# Altium footprint library openmv-stm32n.PcbLib: 58 footprints (part 2 of 4)
Each footprint in its own frame and in the unit in brackets; x right, y up, seen from the top. Pads: shape width x height; smd on the part's side, far side on the other; paste and mask are expansions set on the pad; w line width, h text height; cw(c..) or ccw(c..) is an arc to the next point about the centre after c.
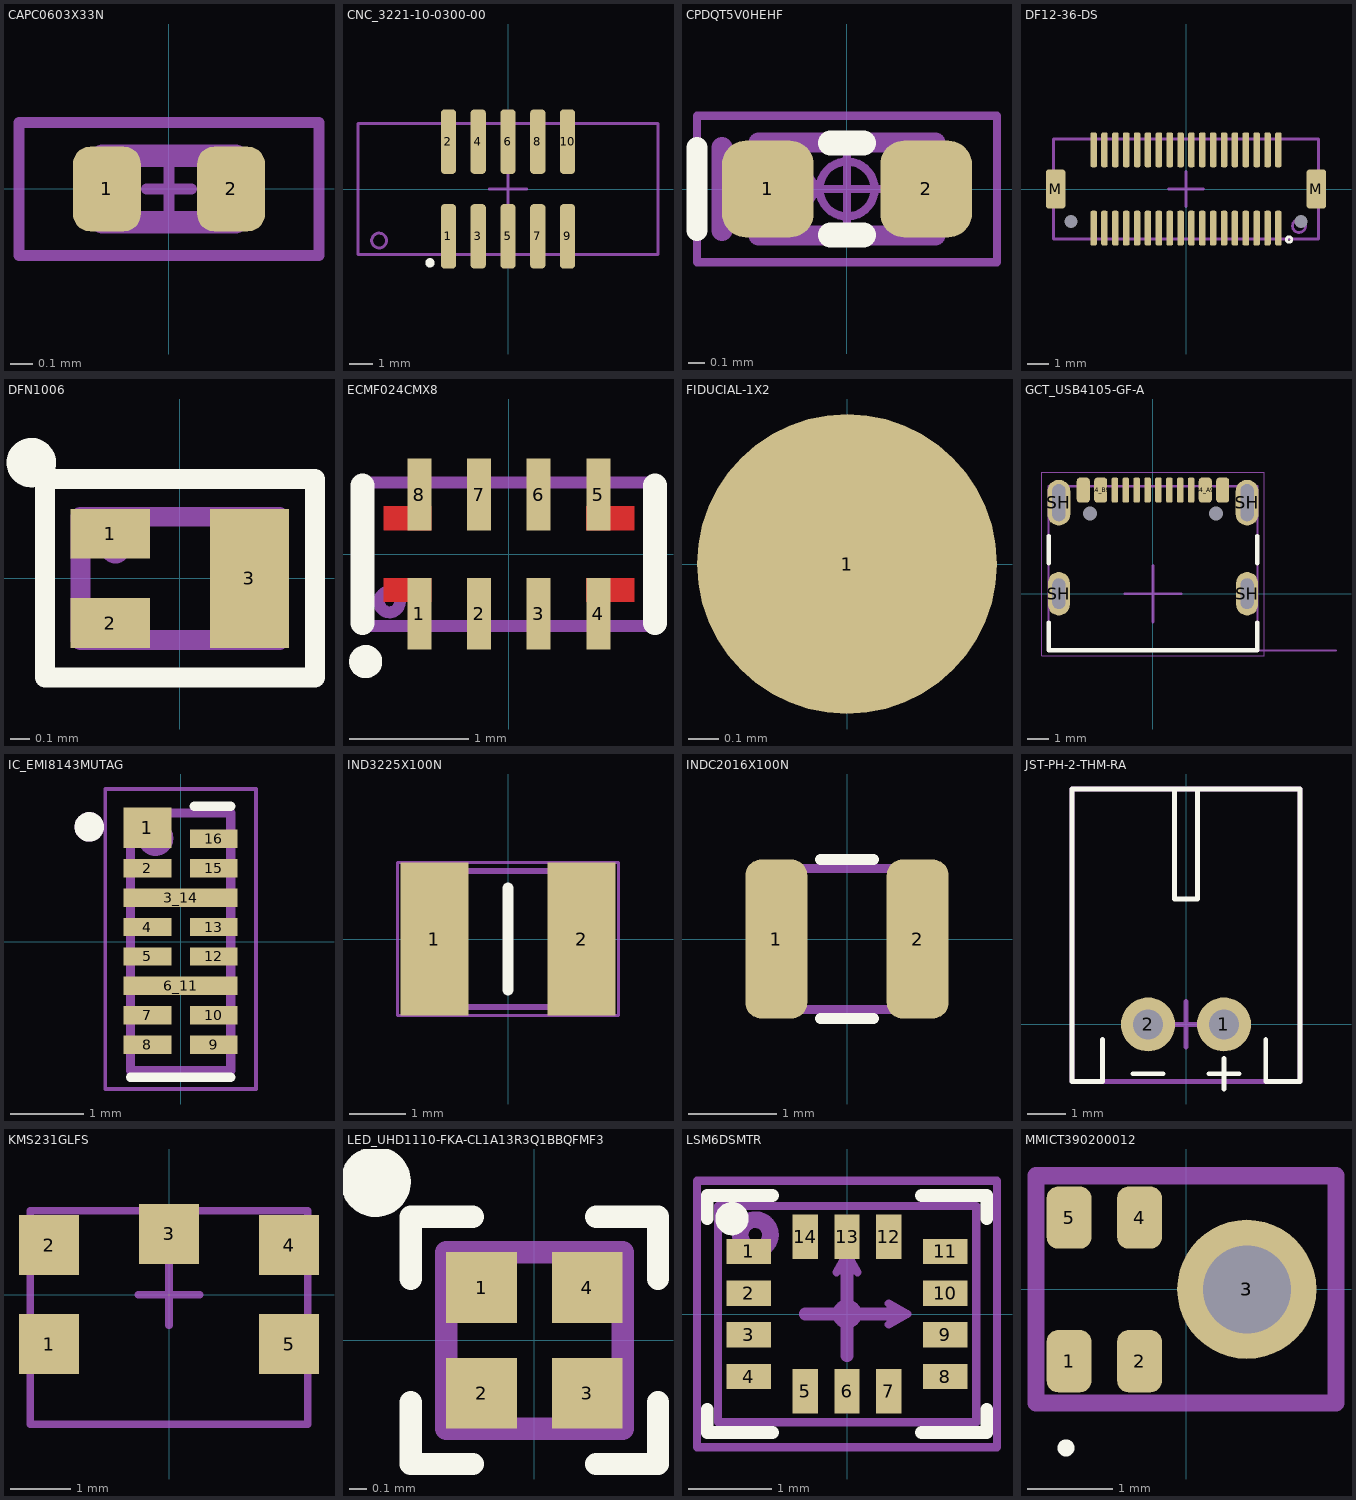
[diagram p1: the footprints below, top view; thin cyan lines are the x and y axes]

## CAPC0603X33N [mil] "CAPC0603X33N"
height 98.43
pads (2):
  rrect50% 12x15 smd mask+1.97: 1(-10.97,-0.04) 2(11.03,-0.04)
Top Solder:
  rectangle: -6.97,-9.04 8.03,8.96
Top 3D Body (Mech13):
  lines w3.94: -11.78,-5.95 11.84,-5.95 11.84,5.86 -11.78,5.86 -11.78,-5.95
  text ".designator" at -7.85,-2.99 h15.75
Mechanical 15:
  lines w1.97: -3.91,-0.04 0.03,-0.04 ; 0.03,-3.98 0.03,-0.04 ; 0.03,3.9 0.03,-0.04 ; 3.97,-0.04 0.03,-0.04 ; -26.55,-11.85 26.6,-11.85 26.6,11.77 -26.55,11.77 -26.55,-11.85
3D body "C0201_035.step": height 13.78, standoff 0, extent -11.79,-5.93 11.84,5.88

## CNC_3221-10-0300-00 [mm] "CNC_3221-10-0300-00"
height 2.5
pads (10):
  rrect50% 0.65x2.76 smd: 1(-2.54,-2.02) 2(-2.54,2.02) 3(-1.27,-2.02) 4(-1.27,2.02) 5(0,-2.02) 6(0,2.02) 7(1.27,-2.02) 8(1.27,2.02) 9(2.54,-2.02) 10(2.54,2.02)
Top Overlay:
  circle w0.2: c-3.327,-3.15 r0.1
Top 3D Body (Mech13):
  circle w0.127: c-5.5,-2.2 r0.316
  lines w0.127: -0.8,0 0,0 ; 0,-0.8 0,0 ; 0,0.8 0,0 ; 0.8,0 0,0 ; -6.4,-2.8 -6.4,2.8 6.4,2.8 6.4,-2.8 -6.4,-2.8
  text ".designator" at -2.1,-2.65 h0.64
3D body "FTSH-105-01-L-DV-K.stp": height 6.13, standoff 0.01, extent -3.175,-2.921 3.175,2.921

## CPDQT5V0HEHF [mm] "CPDQT5V0HEHF"
height 2.5
pads (2):
  rrect51% 0.55x0.58 smd mask+0.05: 1(-0.475,0) 2(0.475,0)
Top Overlay:
  lines w0.127: -0.9,-0.25 -0.9,0.25
  lines w0.15: -0.1,-0.275 0.1,-0.275 ; -0.1,0.275 0.1,0.275
Top 3D Body (Mech13):
  circle w0.254: c-0.3,0 r0
  lines w0.12: -0.53,-0.28 0.53,-0.28 0.53,0.28 -0.53,0.28 -0.53,-0.28
  lines w0.127: -0.75,-0.25 -0.75,0.25
  text ".designator" at -0.2,-0.2 h0.3
Mechanical 15:
  circle w0.05: c0,0 r0.165
  lines w0.05: -0.22,0 0.22,0 ; 0,-0.22 0,0.22 ; -0.9,-0.44 0.9,-0.44 0.9,0.44 -0.9,0.44 -0.9,-0.44
3D body "RES-0402.stp": height 0.34, standoff 0, extent -0.5,-0.25 0.5,0.25

## DF12-36-DS [mm] "DF12-36-DS"
height 2.5
pads (40):
  rrect50% 0.3x1.6 smd paste+0 mask+0.05: 1(4.25,-1.8) 2(4.25,1.8) 3(3.75,-1.8) 4(3.75,1.8) 5(3.25,-1.8) 6(3.25,1.8) 7(2.75,-1.8) 8(2.75,1.8) 9(2.25,-1.8) 10(2.25,1.8) 11(1.75,-1.8) 12(1.75,1.8) 13(1.25,-1.8) 14(1.25,1.8) 15(0.75,-1.8) 16(0.75,1.8) 17(0.25,-1.8) 18(0.25,1.8) 19(-0.25,-1.8) 20(-0.25,1.8) 21(-0.75,-1.8) 22(-0.75,1.8) 23(-1.25,-1.8) 24(-1.25,1.8) 25(-1.75,-1.8) 26(-1.75,1.8) 27(-2.25,-1.8) 28(-2.25,1.8) 29(-2.75,-1.8) 30(-2.75,1.8) 31(-3.25,-1.8) 32(-3.25,1.8) 33(-3.75,-1.8) 34(-3.75,1.8) 35(-4.25,-1.8) 36(-4.25,1.8)
  rrect30% 0.9x1.8 smd: M(-6,0) M(6,0)
  round 0 hole 0.6 unplated: MH1(5.3,-1.5) MH2(-5.3,-1.5)
Top Overlay:
  circle w0.127: c4.742,-2.324 r0.127
Top Paste:
  region: -3.638,-1.206 -3.638,-2.507 -3.858,-2.507 -3.858,-1.206
  region: -4.138,2.513 -4.138,1.213 -4.358,1.213 -4.358,2.513
  region: -3.638,2.513 -3.638,1.213 -3.858,1.213 -3.858,2.513
  region: -4.138,-1.206 -4.138,-2.507 -4.358,-2.507 -4.358,-1.206
  region: -2.638,-1.206 -2.638,-2.507 -2.858,-2.507 -2.858,-1.206
  region: -2.138,-1.206 -2.138,-2.507 -2.358,-2.507 -2.358,-1.206
  region: -1.638,-1.206 -1.638,-2.507 -1.858,-2.507 -1.858,-1.206
  region: -1.138,-1.206 -1.138,-2.507 -1.358,-2.507 -1.358,-1.206
  region: -0.638,-1.206 -0.638,-2.507 -0.858,-2.507 -0.858,-1.206
  region: -0.138,-1.206 -0.138,-2.507 -0.358,-2.507 -0.358,-1.206
  region: 0.362,-1.206 0.362,-2.507 0.142,-2.507 0.142,-1.206
  region: 0.862,-1.206 0.862,-2.507 0.642,-2.507 0.642,-1.206
  region: 1.362,-1.206 1.362,-2.507 1.142,-2.507 1.142,-1.206
  region: 1.862,-1.206 1.862,-2.507 1.642,-2.507 1.642,-1.206
  region: 2.362,-1.206 2.362,-2.507 2.142,-2.507 2.142,-1.206
  region: 2.862,-1.206 2.862,-2.507 2.642,-2.507 2.642,-1.206
  region: 3.362,-1.206 3.362,-2.507 3.142,-2.507 3.142,-1.206
  region: 3.862,-1.206 3.862,-2.507 3.642,-2.507 3.642,-1.206
  region: 4.362,-1.206 4.362,-2.507 4.142,-2.507 4.142,-1.206
  region: -3.138,2.513 -3.138,1.213 -3.358,1.213 -3.358,2.513
  region: -2.638,2.513 -2.638,1.213 -2.858,1.213 -2.858,2.513
  region: -2.138,2.513 -2.138,1.213 -2.358,1.213 -2.358,2.513
  region: -1.638,2.513 -1.638,1.213 -1.858,1.213 -1.858,2.513
  region: -1.138,2.513 -1.138,1.213 -1.358,1.213 -1.358,2.513
  region: -0.638,2.513 -0.638,1.213 -0.858,1.213 -0.858,2.513
  region: -0.148,2.513 -0.148,1.213 -0.368,1.213 -0.368,2.513
  region: 0.362,2.513 0.362,1.213 0.142,1.213 0.142,2.513
  region: 0.862,2.513 0.862,1.213 0.642,1.213 0.642,2.513
  region: 1.362,2.513 1.362,1.213 1.142,1.213 1.142,2.513
  region: 1.852,2.513 1.852,1.213 1.632,1.213 1.632,2.513
  region: 2.362,2.513 2.362,1.213 2.142,1.213 2.142,2.513
  region: 2.862,2.513 2.862,1.213 2.642,1.213 2.642,2.513
  region: 3.362,2.513 3.362,1.213 3.142,1.213 3.142,2.513
  region: 3.862,2.513 3.862,1.213 3.642,1.213 3.642,2.513
  region: 4.362,2.513 4.362,1.213 4.142,1.213 4.142,2.513
  region: -3.138,-1.206 -3.138,-2.507 -3.358,-2.507 -3.358,-1.206
Top 3D Body (Mech13):
  circle w0.127: c5.2,-1.7 r0.3
  lines w0.127: -0.8,0 0,0 ; 0,-0.8 0,0 ; 0,0.8 0,0 ; 0.8,0 0,0 ; -6.1,-2.3 6.1,-2.3 6.1,2.3 -6.1,2.3 -6.1,-2.3
  text ".designator" at -5.5,-2.25 h0.64
3D body "DF12NB-36DS-0.5V.stp": height 2.7, standoff 0, extent -6.05,-2.3 6.05,2.3

## DFN1006 [mm]
height 0.5
pads (3):
  rect 0.4x0.25 smd paste+0 mask+0.05: 1(-0.35,0.225) 2(-0.35,-0.225)
  rect 0.4x0.7 smd paste+0 mask+0.05: 3(0.35,0)
Top Overlay:
  circle w0.125: c-0.749,0.582 r0.062
  lines w0.1: -0.68,-0.5 0.68,-0.5 0.68,0.5 -0.68,0.5 -0.68,-0.5
Top 3D Body:
  circle w0.1: c-0.325,0.15 r0.025
  lines w0.1: -0.5,-0.31 -0.5,0.31 0.5,0.31 0.5,-0.31 -0.5,-0.31
  text ".designator" at -0.406,-0.229 h0.3
3D body: height 0.5, standoff 0, extent -0.5,-0.31 0.5,0.31

## ECMF024CMX8 [mm] "ECMF024CMX8"
height 2.5
pads (8):
  rect 0.2x0.6 smd mask+0.051: 1(-0.75,-0.5) 2(-0.25,-0.5) 3(0.25,-0.5) 4(0.75,-0.5) 5(0.75,0.5) 6(0.25,0.5) 7(-0.25,0.5) 8(-0.75,0.5)
Top Layer:
  region: 0.65,0.2 0.65,0.4 1.05,0.4 1.05,0.2
  region: 0.65,-0.2 0.65,-0.4 1.05,-0.4 1.05,-0.2
  region: -0.65,-0.2 -0.65,-0.4 -1.05,-0.4 -1.05,-0.2
  region: -0.65,0.2 -0.65,0.4 -1.05,0.4 -1.05,0.2
Top Overlay:
  circle w0.15: c-1.2,-0.9 r0.064
  lines w0.2: -1.225,-0.575 -1.225,0.575 ; 1.225,-0.575 1.225,0.575
Top 3D Body (Mech13):
  circle w0.1: c-1,-0.4 r0.087
  lines w0.1: -1.25,-0.6 -1.25,0.6 1.25,0.6 1.25,-0.6 -1.25,-0.6
  text ".designator" at -0.85,-1.373 h0.76
3D body: height 0.5, standoff 0, extent -1.25,-0.6 1.25,0.6

## FIDUCIAL-1X2 [mm] "FIDUCIAL-1X2"
height 2.5
pads (1):
  rrect100% 1x1 smd paste+0: 1(0,0)

## GCT_USB4105-GF-A [mm] "GCT_USB4105-GF-A"
height 2.5
pads (18):
  round 0 hole 0.65 unplated: 0(-2.89,3.68) 0(2.89,3.68)
  rrect50% 0.6x1.15 smd mask+0: A1_B12(-3.2,4.755) A4_B9(-2.4,4.755) B1_A12(3.2,4.755) B4_A9(2.4,4.755)
  rrect50% 0.3x1.15 smd mask+0: A5(-1.25,4.755) A6(-0.25,4.755) A7(0.25,4.755) A8(1.25,4.755) B5(1.75,4.755) B6(0.75,4.755) B7(-0.75,4.755) B8(-1.75,4.755)
  oval 1x2 hole 0.6 slot 1.4 at 90 deg: SH(-4.32,0) SH(4.32,0)
  oval 1.05x2.1 hole 0.6 slot 1.7 at 90 deg: SH(-4.32,4.18) SH(4.32,4.18)
Top Overlay:
  lines w0.2: -4.79,-1.32 -4.79,-2.6 4.79,-2.6 4.79,-1.32 ; -4.79,1.4 -4.79,2.65 ; 4.79,1.4 4.79,2.65
Top 3D Body (Mech13):
  lines w0.1: 4.8,-2.6 8.4,-2.6 ; -4.79,-2.6 4.79,-2.6 4.79,4.93 -4.79,4.93 -4.79,-2.6
  lines w0.127: -1.3,0 0,0 ; 0,-1.3 0,0 ; 0,1.3 0,0 ; 1.3,0 0,0
  text "PCB EDGE" at 5.4,-2.5 h0.41
  text ".designator" at -2,1.85 h0.64
Mechanical 15:
  lines w0.05: -5.1,-2.85 -5.1,5.58 5.1,5.58 5.1,-2.85 -5.1,-2.85
3D body "step_temp.STEP": height 3.31, standoff -0.85, extent -4.79,-2.6 4.79,5.11

## IC_EMI8143MUTAG [mm]
pads (14):
  rect 0.65x0.55 smd mask+0.051: 1(-0.45,1.55)
  rect 0.65x0.25 smd mask+0.051: 2(-0.45,1) 4(-0.45,0.2) 5(-0.45,-0.2) 7(-0.45,-1) 8(-0.45,-1.4) 9(0.45,-1.4) 10(0.45,-1) 12(0.45,-0.2) 13(0.45,0.2) 15(0.45,1) 16(0.45,1.4)
  rect 1.55x0.25 smd mask+0.051: 3_14(0,0.6) 6_11(0,-0.6)
Top Overlay:
  circle w0.2: c-1.24,1.56 r0.1
  lines w0.127: -0.68,-1.84 0.68,-1.84 ; 0.185,1.84 0.68,1.84
Top Courtyard:
  lines w0.05: -1.025,-2 1.025,-2 1.025,2.075 -1.025,2.075 -1.025,-2
Top 3D Body:
  circle w0.2: c-1.24,1.56 r0.1
  circle w0.203: c-0.339,1.406 r0.139
  lines w0.127: -0.68,-1.75 -0.68,1.75 0.68,1.75 0.68,-1.75 -0.68,-1.75
  text ".designator" at 0.576,-1.524 h0.64
3D body: height 0.51, standoff 0, extent -0.68,-1.75 0.68,1.75

## IND3225X100N [mm]
height 2.5
pads (2):
  rect 1.2x2.7 smd: 1(-1.3,0) 2(1.3,0)
Top Overlay:
  lines w0.2: 0,-0.9 0,0.9
Top 3D Body:
  lines w0.1: -1.6,-1.2 -1.6,1.2 1.6,1.2 1.6,-1.2 -1.6,-1.2
Mechanical 20:
  lines w0.05: -1.95,-1.35 -1.95,1.35 1.95,1.35 1.95,-1.35 -1.95,-1.35
3D body: height 1, standoff 0, extent -1.6,-1.2 1.6,1.2

## INDC2016X100N [mm] "INDC2016X100N"
height 2.5
pads (2):
  rrect50% 0.7x1.8 smd: 1(-0.8,0) 2(0.8,0)
Top Overlay:
  lines w0.127: -0.3,-0.9 0.3,-0.9 ; -0.3,0.9 0.3,0.9
Top 3D Body (Mech13):
  lines w0.1: -1,-0.8 1,-0.8 1,0.8 -1,0.8 -1,-0.8
  text ".designator" at -1,-0.95 h0.64
3D body: height 1, standoff 0, extent -1,-0.8 1,0.8

## JST-PH-2-THM-RA [mil] "JST-PH-2-THM-RA"
height 98.43
pads (2):
  round 56 hole 31.5: 1(39.37,0) 2(-39.37,0)
Top Overlay:
  lines w5: -86.61,-15.75 -86.61,-59.06 -118.11,-59.06 -118.11,244.09 118.11,244.09 118.11,-59.06 86.61,-59.06 82.68,-59.06 82.68,-15.75 ; -55.12,-51.18 -23.62,-51.18 ; -11.81,244.09 -11.81,129.92 11.81,129.92 11.81,244.09 ; 23.62,-51.18 55.12,-51.18 ; 39.37,-66.93 39.37,-35.43
Top 3D Body (Mech13):
  lines w5: -23.62,0 0,0 ; 0,-23.62 0,0 ; 0,23.62 0,0 ; 23.62,0 0,0 ; -118.11,-59.06 -118.11,244.09 118.11,244.09 118.11,-59.06 -118.11,-59.06
  text ".designator" at -90.55,49.2 h25
3D body "c-440055-2-b3-3d.stp": height 195.38, standoff -133.36, extent -118.11,-59.06 118.11,244.09

## KMS231GLFS [mm]
height 2.5
pads (5):
  rect 1x1 smd: 1(-2,-0.825) 2(-2,0.825) 3(0,1.016) 4(2,0.825) 5(2,-0.825)
Top 3D Body (Mech13):
  lines w0.127: -0.508,0 0,0 ; 0,-0.508 0,0 ; 0,0.508 0,0 ; 0.508,0 0,0 ; -2.311,-2.159 -2.311,1.397 2.311,1.397 2.311,-2.159 -2.311,-2.159
  text ".designator" at -2.108,-2.277 h0.64
3D body "KMS231GLFS.stp": height 1.43, standoff -0.01, extent -2.3,-2.15 2.3,1.4

## LED_UHD1110-FKA-CL1A13R3Q1BBQFMF3 [mm] "LED_UHD1110-FKA-CL1A13R3Q1BBQFMF3"
height 2.5
pads (4):
  rect 0.4x0.4 smd: 1(-0.3,0.3) 2(-0.3,-0.3) 3(0.3,-0.3) 4(0.3,0.3)
Top Overlay:
  circle w0.2: c-0.9,0.9 r0.1
  lines w0.127: -0.7,-0.35 -0.7,-0.7 -0.35,-0.7 ; -0.7,0.35 -0.7,0.7 -0.35,0.7 ; 0.35,-0.7 0.7,-0.7 0.7,-0.35 ; 0.35,0.7 0.7,0.7 0.7,0.35
Top 3D Body (Mech13):
  circle w0.127: c-0.3,0.3 r0.06
  lines w0.127: -0.5,-0.5 0.5,-0.5 0.5,0.5 -0.5,0.5 -0.5,-0.5
  text ".designator" at -0.7,0.35 h0.64
3D body: height 0.62, standoff 0, extent 0.2,-0.2 0.357,0.2
3D body: height 0.62, standoff 0, extent -0.35,-0.3 -0.161,-0.05
3D body: height 0.62, standoff 0, extent -0.34,0.049 -0.155,0.3
3D body: height 0.6, standoff 0, extent -0.5,-0.5 0.5,0.5

## LSM6DSMTR [mil] "Accelerometer, Gyroscope, Temperature, 6 Axis Sensor I²C, SPI Output"
pads (14):
  rect 21x12 smd paste-2.1 mask+2: 1(-46.5,29.53) 2(-46.5,9.84) 3(-46.5,-9.84) 4(-46.5,-29.53) 8(46.5,-29.53) 9(46.5,-9.84) 10(46.5,9.84) 11(46.5,29.53)
  rect 12x21 smd paste-2.1 mask+2: 5(-19.68,-36.5) 6(0,-36.5) 7(19.68,-36.5) 12(19.68,36.5) 13(0,36.5) 14(-19.68,36.5)
Top Overlay:
  circle w7.87: c-54.34,45.06 r3.94
  lines w6: -66,-45.05 -66,-56 -35.2,-56 ; -66,45.05 -66,56 -35.2,56 ; 35.2,-56 66,-56 66,-45.05 ; 35.2,56 66,56 66,45.05
Top 3D Body (Mech13):
  circle w7.87: c-43.31,37.4 r7.17
  circle w7.87: c0,0 r2.95
  lines w3.94: -4.92,19.68 0,28.54 ; 4.92,19.68 0,28.54 ; 19.68,-4.92 28.54,0 ; 19.68,4.92 28.54,0 ; 0,28.54 0,0 28.54,0 ; -60.98,-51.18 61.02,-51.18 61.02,50.99 -60.98,50.99 -60.98,-51.18
  text "X" at 33.46,-6.89 h11.81
  text "Y" at -3.94,33.46 h11.81
  text "Z" at -17.72,-5.91 h11.81
  text ".designator" at -51.18,62.99 h25
Mechanical 15:
  circle w7.87: c-43.31,37.4 r7.17
  lines w3.94: -70.87,-62.99 -70.87,62.99 70.87,62.99 70.87,-62.99 -70.87,-62.99
  lines w6: -19.68,0 0,0 ; 0,-19.68 0,0 ; 0,19.68 0,0 ; 19.68,0 0,0
3D body "lsm6dsmtr.step": height 34.09, standoff 0, extent -60.98,-50.98 60.99,50.99

## MMICT390200012 [mm]
height 2.5
pads (6):
  rrect50% 0.522x0.725 smd: 1(-1.364,-0.838) 2(-0.542,-0.838) 4(-0.542,0.837) 5(-1.364,0.837)
  round 1.625 / inner round 0 / far side round 0 all layers, no hole: 3(0.71,0)
  round 0.512 hole 1.025 unplated: 3(0.71,0)
Top Overlay:
  lines w0.1: -1.4,-1.9 ccw(c-1.4,-1.85) -1.4,-1.8 ccw(c-1.4,-1.85) -1.4,-1.9
Top Paste:
  lines w0.254: 0.801,0.707 cw(c0.71,0) 0.816,-0.705
Top 3D Body (Mech13):
  lines w0.2: -1.75,-1.325 -1.75,1.325 1.75,1.325 1.75,-1.325 -1.75,-1.325